# Altium footprint library JP.PcbLib: 182 footprints (part 6 of 12)
Each footprint in its own frame and in the unit in brackets; x right, y up, seen from the top. Pads: shape width x height; smd on the part's side, far side on the other; paste and mask are expansions set on the pad; w line width, h text height; cw(c..) or ccw(c..) is an arc to the next point about the centre after c.
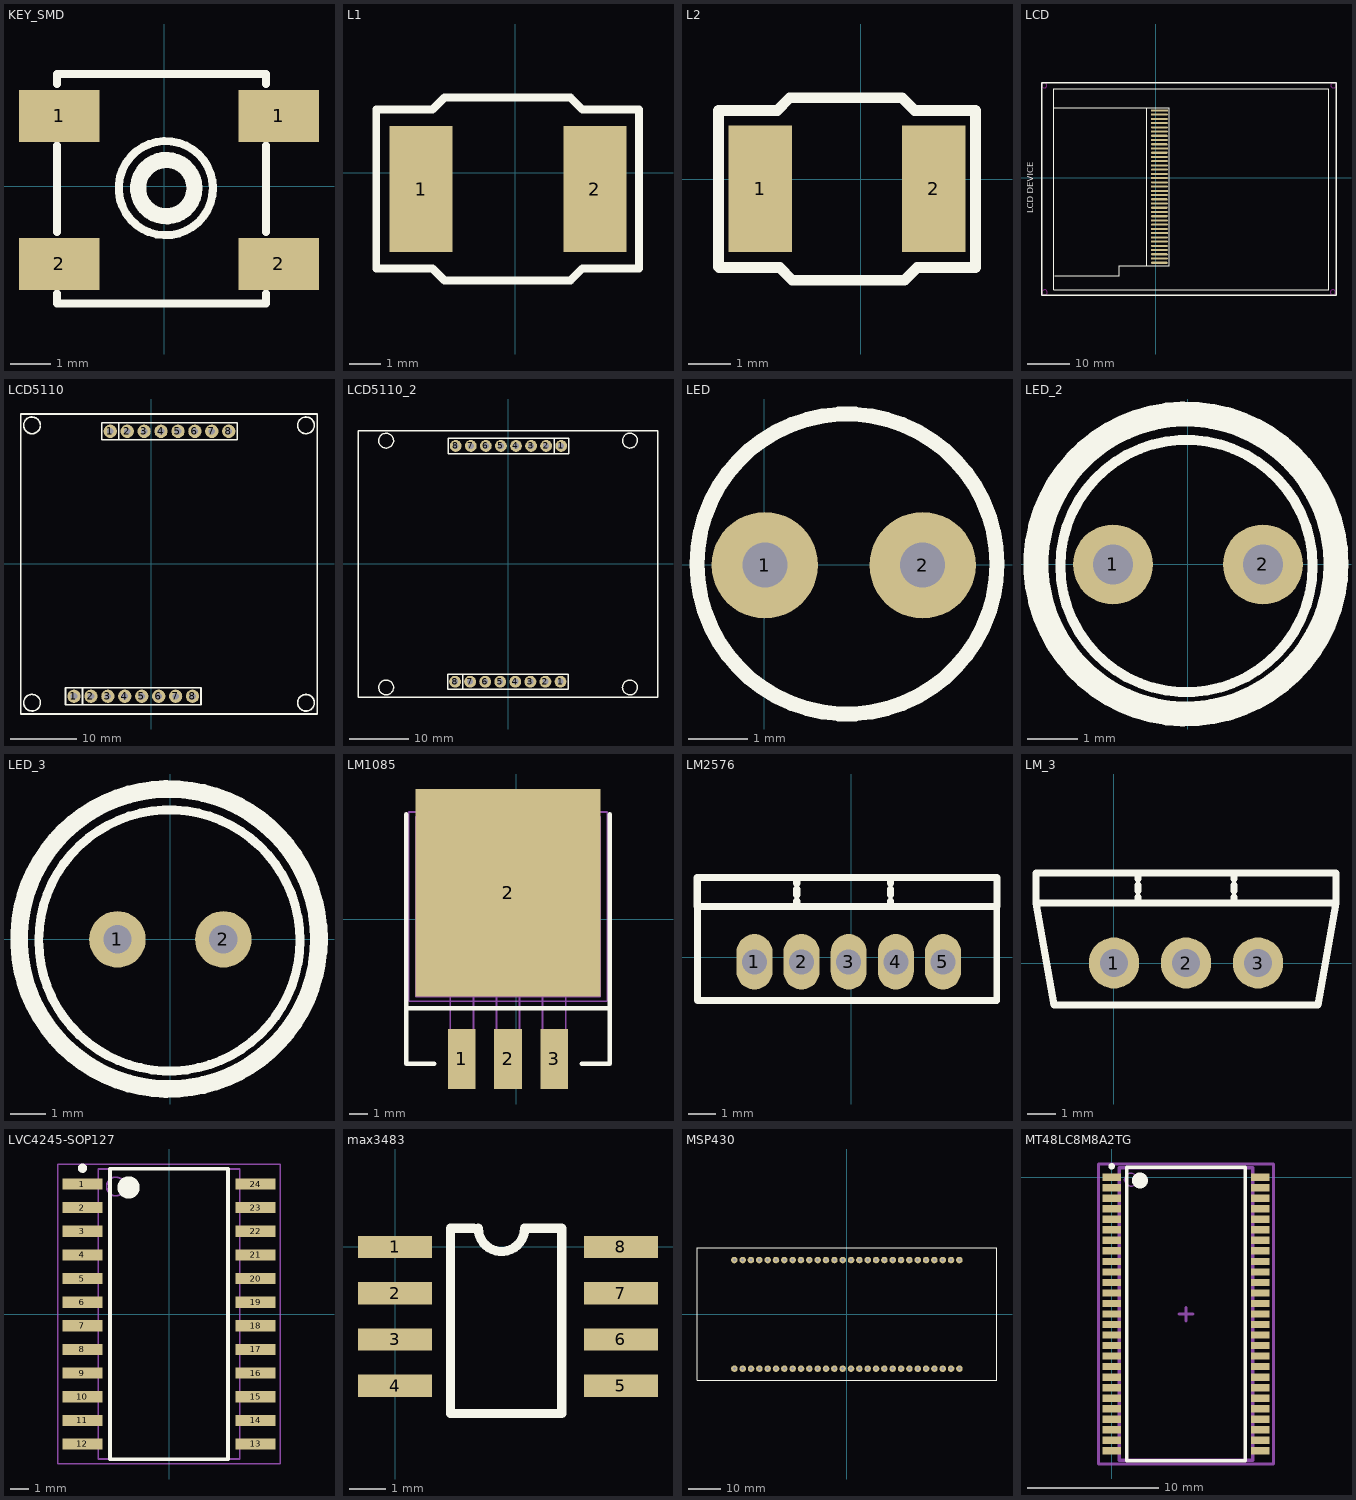
[diagram p5: the footprints below, top view; thin cyan lines are the x and y axes]

## KEY_SMD [mm]
pads (4):
  rect 2x1.3 smd: 1(-2.607,1.747) 1(2.854,1.747) 2(-2.607,-1.936) 2(2.854,-1.936)
Top Overlay:
  circle w0.4: c0.055,-0.05 r0.7
  circle w0.2: c0.043,-0.05 r1.171
  lines w0.2: -2.667,-2.667 -2.667,-2.921 2.54,-2.921 2.54,-2.667 ; -2.667,-1.143 -2.667,1.016 ; -2.667,2.54 -2.667,2.794 2.54,2.794 2.54,2.54 ; 2.54,-1.143 2.54,1.016
3D body: height 2.5, standoff 0, extent -2.767,-3.021 2.64,2.894

## L1 [mm]
pads (2):
  rect 2x4 smd: 1(-2.98,-0.52) 2(2.52,-0.52)
Top Overlay:
  lines w0.25: -4.402,-3.035 -4.402,1.995 -2.624,1.995 -2.243,2.376 1.744,2.376 2.125,1.995 3.921,1.995 3.921,-0.52 3.921,-3.035 2.125,-3.035 1.744,-3.416 -2.243,-3.416 -2.624,-3.035 -4.402,-3.035
3D body: height 0, standoff 0, extent -4.082,-2.622 3.622,1.582

## L2 [mm]
pads (2):
  rect 1.5x3 smd: 1(-2.38,-0.22) 2(1.73,-0.22)
Top Overlay:
  lines w0.254: -3.37,-2.07 -3.37,1.63 -1.98,1.63 -1.68,1.93 0.98,1.93 1.28,1.63 2.72,1.63 2.72,-2.09 1.34,-2.09 1.04,-2.39 -1.62,-2.39 -1.92,-2.09 -3.35,-2.09

## LCD [mm]
height 0.254
pads (37):
  rect 4x0.5 smd: 1(0.824,15.943) 10(0.824,6.943) 20(0.824,-3.057) 30(0.824,-13.057)
  oval 4x0.5 smd: 2(0.824,14.943) 3(0.824,13.943) 4(0.824,12.943) 5(0.824,11.943) 6(0.824,10.943) 7(0.824,9.943) 8(0.824,8.943) 9(0.824,7.943) 11(0.824,5.943) 12(0.824,4.943) 13(0.824,3.943) 14(0.824,2.943) 15(0.824,1.943) 16(0.824,0.943) 17(0.824,-0.057) 18(0.824,-1.057) 19(0.824,-2.057) 21(0.824,-4.057) 22(0.824,-5.057) 23(0.824,-6.057) 24(0.824,-7.057) 25(0.824,-8.057) 26(0.824,-9.057) 27(0.824,-10.057) 28(0.824,-11.057) 29(0.824,-12.057) 31(0.824,-14.057) 32(0.824,-15.057) 33(0.824,-16.057) 34(0.824,-17.057) 35(0.824,-18.057) 36(0.824,-19.057) 37(0.824,-20.057)
Top Overlay:
  lines w0.254: -24.068,-20.583 -24.068,16.628 ; -23.941,-23.123 -8.701,-23.123 -8.701,-20.71 3.11,-20.71 3.11,16.628 ; -2.097,-20.71 -2.097,16.628 ; -24.068,16.628 3.11,16.628 ; -24.068,16.628 3.11,16.628 ; -24.068,-26.425 -24.068,21.073 40.829,21.073 40.829,-26.425 -24.068,-26.425
  lines w0.3: -27.007,-27.711 42.568,-27.711 42.568,22.454 -27.007,22.454 -27.007,-27.711
  text "LCD DEVICE" at -28.321,-8.382 h2.5
Keep-Out Layer:
  circle w0.254: c-26.381,21.844 r0.6
  circle w0.254: c41.945,21.844 r0.6
  circle w0.254: c41.818,-27.051 r0.6
  circle w0.254: c-26.254,-27.051 r0.6
3D body: height 2, standoff 0, extent -27.006,-27.71 42.567,22.453

## LCD5110 [mm]
pads (16):
  round 2 hole 1: 1(-11.608,-19.871) 1(-6.172,19.871) 2(-9.068,-19.871) 2(-3.632,19.871) 3(-6.528,-19.871) 3(-1.092,19.871) 4(-3.988,-19.871) 4(1.448,19.871) 5(-1.448,-19.871) 5(3.988,19.871) 6(1.092,-19.871) 6(6.528,19.871) 7(3.632,-19.871) 7(9.068,19.871) 8(6.172,-19.871) 8(11.608,19.871)
Top Overlay:
  lines w0.25: -19.608,22.369 -19.608,-22.529 24.892,-22.529 24.892,22.471 -19.608,22.471 ; -10.338,-21.141 -10.338,-18.601 ; -4.902,18.601 -4.902,21.141 ; -12.878,-21.141 -12.878,-18.601 7.442,-18.601 7.442,-21.141 -12.878,-21.141 ; -7.442,18.601 -7.442,21.141 12.878,21.141 12.878,18.601 -7.442,18.601
  lines w0.254: -17.908,-19.588 ccw(c-17.908,-20.838) -17.79,-19.594 ; -16.664,20.652 cw(c-17.908,20.771) -16.658,20.771 ; 21.943,-20.838 ccw(c23.193,-20.838) 21.948,-20.719 ; 23.074,19.527 cw(c23.193,20.771) 23.193,19.521

## LCD5110_2 [mm]
pads (16):
  round 2 hole 1: 1(8.832,-19.871) 1(8.948,19.871) 2(6.292,-19.871) 2(6.408,19.871) 3(3.752,-19.871) 3(3.868,19.871) 4(1.212,-19.871) 4(1.328,19.871) 5(-1.328,-19.871) 5(-1.212,19.871) 6(-3.868,-19.871) 6(-3.752,19.871) 7(-6.408,-19.871) 7(-6.292,19.871) 8(-8.948,-19.871) 8(-8.832,19.871)
Top Overlay:
  lines w0.25: -7.678,-21.141 -7.678,-18.601 ; 7.75,18.6 7.75,21.14 ; -25.31,-22.529 -25.31,22.471 25.27,22.471 25.27,-22.529 -25.31,-22.529 ; -10.218,-21.141 10.102,-21.141 10.102,-18.601 -10.218,-18.601 -10.218,-21.141 ; -10.102,18.601 10.218,18.601 10.218,21.141 -10.102,21.141 -10.102,18.601
  lines w0.254: -20.568,-19.588 ccw(c-20.568,-20.838) -20.45,-19.594 ; -19.324,20.652 cw(c-20.568,20.771) -19.318,20.771 ; 19.283,-20.838 ccw(c20.533,-20.838) 19.288,-20.719 ; 20.414,19.527 cw(c20.533,20.771) 20.533,19.521

## LED [mm]
pads (2):
  round 1.8 hole 0.762: 1(0.01,-0.01) 2(2.68,-0.01)
Top Overlay:
  circle w0.254: c1.4,0.01 r2.539

## LED_2 [mm]
pads (2):
  round 1.6 hole 0.8: 1(-1.5,0) 2(1.5,0)
Top Overlay:
  circle w0.2: c-0.03,-0.03 r2.523
  circle w0.5: c-0.04,0.01 r3
3D body: height 1, standoff 0, extent -3.049,-2.999 2.969,3.019
3D body: height 9, standoff 1, extent -2.565,-2.565 2.505,2.505

## LED_3 [mm]
pads (2):
  round 1.6 hole 0.8: 1(-1.5,0) 2(1.5,0)
Top Overlay:
  circle w0.5: c-0.04,0.01 r4.25
  circle w0.254: c-0.03,-0.03 r3.7
3D body: height 0.5, standoff 0, extent -3.741,-3.741 3.681,3.681
3D body: height 9.5, standoff 0.5, extent -4.299,-4.249 4.219,4.269

## LM1085 [mil]
pads (4):
  rect 60x130 smd: 1(-117.72,-303.23) 2(-17.72,-303.23) 3(82.28,-303.23)
  rect 400x450 smd: 2(-17.72,56.77)
Top Overlay:
  lines w9.84: -237.72,226.77 -237.72,-193.23 ; -177.72,-313.23 -237.72,-313.23 -237.72,-193.23 ; 142.28,-313.23 202.28,-313.23 202.28,-193.23 ; 202.28,226.77 202.28,-193.23 ; -237.72,-193.23 202.28,-193.23
Mechanical 2:
  lines w4: -217.72,161.77 182.28,161.77 ; -142.72,-168.23 -142.72,-308.23 -92.72,-308.23 -92.72,-168.23 ; -117.72,161.77 -117.72,-88.23 82.28,-88.23 82.28,161.77 ; -42.72,-168.23 -42.72,-308.23 7.28,-308.23 7.28,-168.23 ; 57.28,-168.23 57.28,-308.23 107.28,-308.23 107.28,-168.23 ; -217.72,-168.23 182.28,-168.23 182.28,221.77 -217.72,221.77 -217.72,-168.23
Mechanical 3:
  rectangle: -137.72,-343.23 -97.72,-258.23
  rectangle: 62.28,-343.23 102.28,-258.23
  rectangle: -37.72,-343.23 2.28,-258.23
  lines w4: -232.72,-178.23 197.28,-178.23 197.28,231.77 -232.72,231.77 -232.72,-178.23

## LM2576 [mm]
pads (5):
  oval 1.3x2 hole 0.9: 1(-3.49,-0.16) 2(-1.79,-0.16) 3(-0.09,-0.16) 4(1.61,-0.16) 5(3.31,-0.16)
Top Overlay:
  lines w0.25: -5.55,2.88 -5.55,-1.56 5.25,-1.56 5.25,1.9
  lines w0.254: -1.963,1.827 -1.963,2.038 ; -1.963,2.25 -1.963,2.462 ; -1.963,2.673 -1.963,2.885 ; 1.423,1.827 1.423,2.038 ; 1.423,2.25 1.423,2.462 ; 1.423,2.673 1.423,2.885 ; -5.562,1.827 -5.562,2.885 5.26,2.885 5.26,1.827 -5.562,1.827

## LM_3 [mm]
pads (3):
  oval 1.778x1.8 hole 1: 1(0,0) 2(2.54,0) 3(5.08,0)
Top Overlay:
  lines w0.254: 0.847,2.117 0.847,2.328 ; 0.847,2.54 0.847,2.752 ; 0.847,2.963 0.847,3.175 ; 4.233,2.117 4.233,2.328 ; 4.233,2.54 4.233,2.752 ; 4.233,2.963 4.233,3.175 ; -2.752,2.117 -2.752,3.175 7.832,3.175 7.832,2.117 ; -2.752,2.117 -2.117,-1.482 7.197,-1.482 7.832,2.117 ; -2.752,2.117 7.832,2.117

## LVC4245-SOP127 [mm]
height 2.45
pads (24):
  rect 2.15x0.6 smd: 1(-4.65,6.985) 2(-4.65,5.715) 3(-4.65,4.445) 4(-4.65,3.175) 5(-4.65,1.905) 6(-4.65,0.635) 7(-4.65,-0.635) 8(-4.65,-1.905) 9(-4.65,-3.175) 10(-4.65,-4.445) 11(-4.65,-5.715) 12(-4.65,-6.985) 13(4.65,-6.985) 14(4.65,-5.715) 15(4.65,-4.445) 16(4.65,-3.175) 17(4.65,-1.905) 18(4.65,-0.635) 19(4.65,0.635) 20(4.65,1.905) 21(4.65,3.175) 22(4.65,4.445) 23(4.65,5.715) 24(4.65,6.985)
Top Overlay:
  circle w0.6: c-2.175,6.8 r0.3
  circle w0.25: c-4.65,7.835 r0.125
  lines w0.2: -3.175,-7.8 3.175,-7.8 3.175,7.8 -3.175,7.8 -3.175,-7.8
Mechanical 13:
  circle w0.1: c-2.85,6.85 r0.5
  lines w0.1: -3.8,-7.8 3.8,-7.8 3.8,7.8 -3.8,7.8 -3.8,-7.8
Mechanical 15:
  lines w0.1: -5.975,-8.05 5.975,-8.05 5.975,8.05 -5.975,8.05 -5.975,-8.05
3D body: height 2.45, standoff 0.25, extent -3.8,-7.8 3.8,7.8

## max3483 [mil]
pads (8):
  rect 80x24 smd: 1(0,0) 2(0,-50) 3(0,-100) 4(0,-150) 5(244.09,-150) 6(244.09,-100) 7(244.09,-50) 8(244.09,0)
Top Overlay:
  lines w10: 85,20 60,20 60,-180 180,-180 180,20 140,20 cw(c115,20) 90,20

## MSP430 [mm]
height 0.6
pads (56):
  round 2 hole 0.9: 0(-34.295,-16.561) 1(-31.755,-16.561) 2(-29.215,-16.561) 3(-26.675,-16.561) 4(-24.141,-16.561) 5(-21.601,-16.561) 6(-19.061,-16.561) 7(-16.521,-16.561) 8(-13.981,-16.561) 9(-11.441,-16.561) 10(-8.901,-16.561) 11(-6.361,-16.561) 12(-3.819,-16.561) 13(-1.279,-16.561) 14(1.261,-16.561) 15(3.801,-16.561) 16(6.341,-16.561) 17(8.881,-16.561) 18(11.421,-16.561) 19(13.961,-16.561) 20(16.526,-16.561) 21(19.066,-16.561) 22(21.606,-16.561) 23(24.146,-16.561) 24(26.686,-16.561) 25(29.226,-16.561) 26(31.766,-16.561) 27(34.306,-16.561) 28(34.294,16.561) 29(31.754,16.561) 30(29.214,16.561) 31(26.674,16.561) 32(24.134,16.561) 33(21.594,16.561) 34(19.054,16.561) 35(16.514,16.561) 36(13.983,16.561) 37(11.443,16.561) 38(8.903,16.561) 39(6.363,16.561) 40(3.823,16.561) 41(1.283,16.561) 42(-1.257,16.561) 43(-3.797,16.561) 44(-6.373,16.561) 45(-8.913,16.561) 46(-11.453,16.561) 47(-13.993,16.561) 48(-16.533,16.561) 49(-19.073,16.561) 50(-21.613,16.561) 51(-24.153,16.561) 52(-26.711,16.561) 53(-29.251,16.561) 54(-31.766,16.561) 55(-34.306,16.561)
Top Overlay:
  lines w0.25: -45.69,-20.082 -45.69,20.305 45.76,20.305 45.76,-20.066 -45.69,-20.082

## MT48LC8M8A2TG [mm]
pads (54):
  rect 1.4x0.55 smd: 1(0,0) 2(0,-0.8) 3(0,-1.6) 4(0,-2.4) 5(0,-3.2) 6(0,-4) 7(0,-4.8) 8(0,-5.6) 9(0,-6.4) 10(0,-7.2) 11(0,-8) 12(0,-8.8) 13(0,-9.6) 14(0,-10.4) 15(0,-11.2) 16(0,-12) 17(0,-12.8) 18(0,-13.6) 19(0,-14.4) 20(0,-15.2) 21(0,-16) 22(0,-16.8) 23(0,-17.6) 24(0,-18.4) 25(0,-19.2) 26(0,-20) 27(0,-20.8) 28(11.3,-20.8) 29(11.3,-20) 30(11.3,-19.2) 31(11.3,-18.4) 32(11.3,-17.6) 33(11.3,-16.8) 34(11.3,-16) 35(11.3,-15.2) 36(11.3,-14.4) 37(11.3,-13.6) 38(11.3,-12.8) 39(11.3,-12) 40(11.3,-11.2) 41(11.3,-10.4) 42(11.3,-9.6) 43(11.3,-8.8) 44(11.3,-8) 45(11.3,-7.2) 46(11.3,-6.4) 47(11.3,-5.6) 48(11.3,-4.8) 49(11.3,-4) 50(11.3,-3.2) 51(11.3,-2.4) 52(11.3,-1.6) 53(11.3,-0.8) 54(11.3,0)
Top Overlay:
  circle w0.25: c0,0.825 r0.125
  circle w0.6: c2.15,-0.25 r0.3
  lines w0.254: 1.15,-21.55 1.15,0.75 10.15,0.75 10.15,-21.55 1.15,-21.55
Mechanical 13:
  circle w0.1: c1.47,-0.19 r0.5
  lines w0.254: 0.57,-21.51 0.57,0.71 10.73,0.71 10.73,-21.51 0.57,-21.51
Mechanical 15:
  lines w0.254: 5.15,-10.4 6.15,-10.4 ; 5.65,-10.9 5.65,-9.9 ; -1,-21.8 -1,1 12.3,1 12.3,-21.8 -1,-21.8
3D body: height 1.2, standoff 0, extent 0.57,-21.51 10.73,0.71